# EAGLE library part AMP-5650895-4 (library 000_ICS)
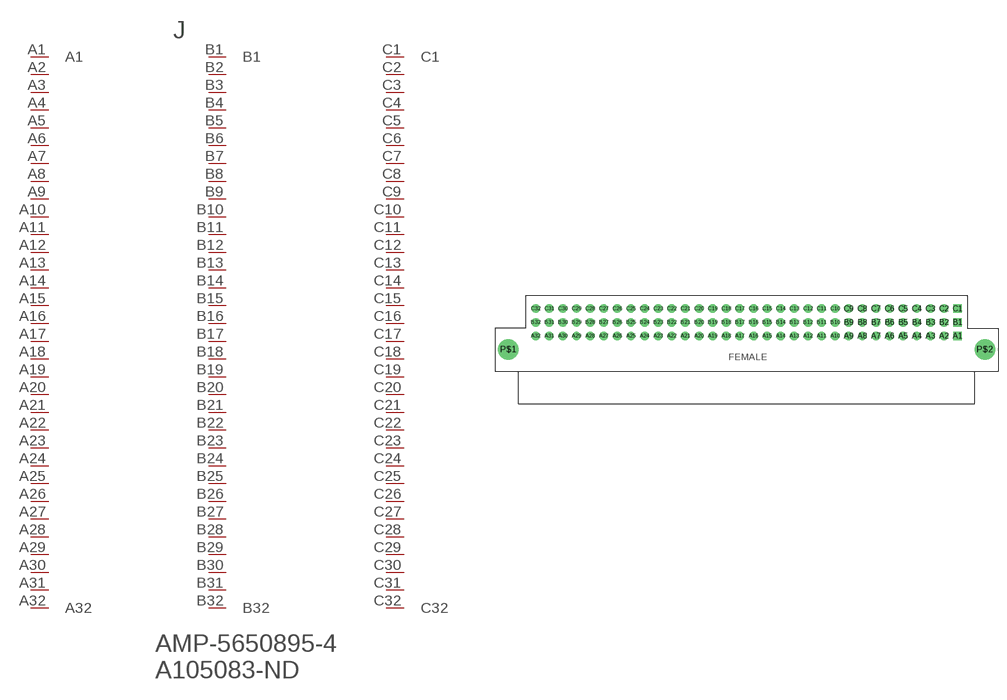
[diagram p17: symbol with the pads of AMP-5650895-4; footprint AMP-5650895-4]

Designator prefix J

## AMP-5650895-4  [AMP-5650895-4]
A1  A1
A2  A2
A3  A3
A4  A4
A5  A5
A6  A6
A7  A7
A8  A8
A9  A9
A10  A10
A11  A11
A12  A12
A13  A13
A14  A14
A15  A15
A16  A16
A17  A17
A18  A18
A19  A19
A20  A20
A21  A21
A22  A22
A23  A23
A24  A24
A25  A25
A26  A26
A27  A27
A28  A28
A29  A29
A30  A30
A31  A31
A32  A32
B1  B1
B2  B2
B3  B3
B4  B4
B5  B5
B6  B6
B7  B7
B8  B8
B9  B9
B10  B10
B11  B11
B12  B12
B13  B13
B14  B14
B15  B15
B16  B16
B17  B17
B18  B18
B19  B19
B20  B20
B21  B21
B22  B22
B23  B23
B24  B24
B25  B25
B26  B26
B27  B27
B28  B28
B29  B29
B30  B30
B31  B31
B32  B32
C1  C1
C2  C2
C3  C3
C4  C4
C5  C5
C6  C6
C7  C7
C8  C8
C9  C9
C10  C10
C11  C11
C12  C12
C13  C13
C14  C14
C15  C15
C16  C16
C17  C17
C18  C18
C19  C19
C20  C20
C21  C21
C22  C22
C23  C23
C24  C24
C25  C25
C26  C26
C27  C27
C28  C28
C29  C29
C30  C30
C31  C31
C32  C32

## Footprint AMP-5650895-4 (pad centres in mm)
drill 1.05 square: A1 39.37,0; B1 39.37,2.54; C1 39.37,5.08
drill 1.05: A2 36.83,0; A3 34.29,0; A4 31.75,0; A5 29.21,0; A6 26.67,0; A7 24.13,0; A8 21.59,0; A9 19.05,0; A10 16.51,0; A11 13.97,0; A12 11.43,0; A13 8.89,0; A14 6.35,0; A15 3.81,0; A16 1.27,0; A17 -1.27,0; A18 -3.81,0; A19 -6.35,0; A20 -8.89,0; A21 -11.43,0; A22 -13.97,0; A23 -16.51,0; A24 -19.05,0; A25 -21.59,0; A26 -24.13,0; A27 -26.67,0; A28 -29.21,0; A29 -31.75,0; A30 -34.29,0; A31 -36.83,0; A32 -39.37,0; B2 36.83,2.54; B3 34.29,2.54; B4 31.75,2.54; B5 29.21,2.54; B6 26.67,2.54; B7 24.13,2.54; B8 21.59,2.54; B9 19.05,2.54; B10 16.51,2.54; B11 13.97,2.54; B12 11.43,2.54; B13 8.89,2.54; B14 6.35,2.54; B15 3.81,2.54; B16 1.27,2.54; B17 -1.27,2.54; B18 -3.81,2.54; B19 -6.35,2.54; B20 -8.89,2.54; B21 -11.43,2.54; B22 -13.97,2.54; B23 -16.51,2.54; B24 -19.05,2.54; B25 -21.59,2.54; B26 -24.13,2.54; B27 -26.67,2.54; B28 -29.21,2.54; B29 -31.75,2.54; B30 -34.29,2.54; B31 -36.83,2.54; B32 -39.37,2.54; C2 36.83,5.08; C3 34.29,5.08; C4 31.75,5.08; C5 29.21,5.08; C6 26.67,5.08; C7 24.13,5.08; C8 21.59,5.08; C9 19.05,5.08; C10 16.51,5.08; C11 13.97,5.08; C12 11.43,5.08; C13 8.89,5.08; C14 6.35,5.08; C15 3.81,5.08; C16 1.27,5.08; C17 -1.27,5.08; C18 -3.81,5.08; C19 -6.35,5.08; C20 -8.89,5.08; C21 -11.43,5.08; C22 -13.97,5.08; C23 -16.51,5.08; C24 -19.05,5.08; C25 -21.59,5.08; C26 -24.13,5.08; C27 -26.67,5.08; C28 -29.21,5.08; C29 -31.75,5.08; C30 -34.29,5.08; C31 -36.83,5.08; C32 -39.37,5.08
drill 2.8: P$1 -44.45,-2.54; P$2 44.45,-2.54